# EAGLE library part LOXONE_1WIRE (library loxone)
Loxone 1-Wire Extension
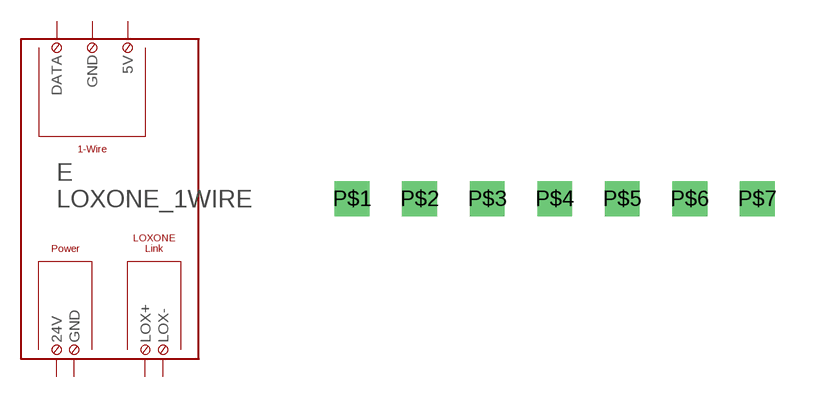
[diagram p3: symbol with the pads of LOXONE_1WIRE; footprint LOXONE_1WIRE]

Designator prefix E

## LOXONE_1WIRE  [LOXONE_1WIRE]
P$1  24V.1  pas
P$2  GND.1  pas
P$3  LOX+  pas
P$4  LOX-  pas
P$5  DATA  pas
P$6  GND.2  pas
P$7  5V  pas

## Footprint LOXONE_1WIRE (pad centres in mm)
drill 0.8 square: P$1 0,0; P$2 2.54,0; P$3 5.08,0; P$4 7.62,0; P$5 10.16,0; P$6 12.7,0; P$7 15.24,0